# EAGLE library part TPS2015D (library SamacSys_Parts)
Leistungsschalter IC - Leistungsverteiler SINGLE HI-SIDE MOSFET Source: Datasheet
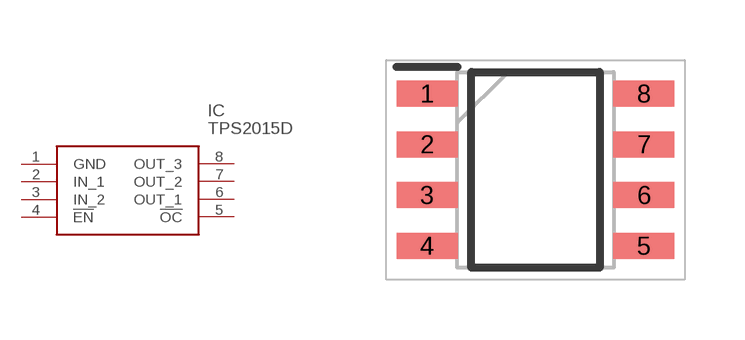
[diagram p140: symbol with the pads of SOIC127P600X175-8N; footprint SOIC127P600X175-8N]

Designator prefix IC

## TPS2015D (DESCRIPTION: Leistungsschalter IC - Leistungsverteiler SINGLE HI-SIDE MOSFET; HEIGHT: 1.75mm; MANUFACTURER_NAME: Texas Instruments; MANUFACTURER_PART_NUMBER: TPS2015D; MOUSER_PART_NUMBER: 595-TPS2015D; MOUSER_PRICE-STOCK: https://www.mouser.com/Search/Refine.aspx?Keyword=595-TPS2015D)  [SOIC127P600X175-8N]
1  GND
2  IN_1
3  IN_2
4  !EN
5  !OC
6  OUT_1
7  OUT_2
8  OUT_3

## Footprint SOIC127P600X175-8N (pad centres in mm)
SO8N 8-lead plastic small outline, 150 mils body width
smd 1.525 x 0.65: 1 -2.712,1.905; 2 -2.712,0.635; 3 -2.712,-0.635; 4 -2.712,-1.905; 5 2.712,-1.905; 6 2.712,-0.635; 7 2.712,0.635; 8 2.712,1.905